# Altium schematic symbol library ERJ-3EKF4992V.SchLib: 1 symbol
Pins are listed as number, name and electrical type; pins without a type are passive.

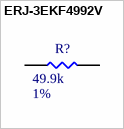
[diagram p0: symbol ERJ-3EKF4992V]

## ERJ-3EKF4992V
designator R?  Tolerance: 1%  Resistance: 49.9k  (hidden comment: ERJ-3EKF4992V)
Thick Film Resistors - SMD 0603 49.9Kohms 1% AEC-Q200; MFR: Panasonic; Power Rating: 1/10W; Qualifications: AEC-Q200; Footprint: RES0603; PN: ERJ-3EKF4992V; ComponentLink1Description: Datasheet; ComponentLink1URL: https://www.mouser.ca/datasheet/2/315/AOA0000C304-1149620.pdf; Package: 0603; Supplier 1: Digi-Key; Supplier Part Number 1: P49.9KHCT-ND
footprint RES0603 (Generic 0603)
pins: 1, 2